# Altium footprint library PTH-Packages.PcbLib: 17 footprints (part 2 of 2)
Each footprint in its own frame and in the unit in brackets; x right, y up, seen from the top. Pads: shape width x height; smd on the part's side, far side on the other; paste and mask are expansions set on the pad; w line width, h text height; cw(c..) or ccw(c..) is an arc to the next point about the centre after c.
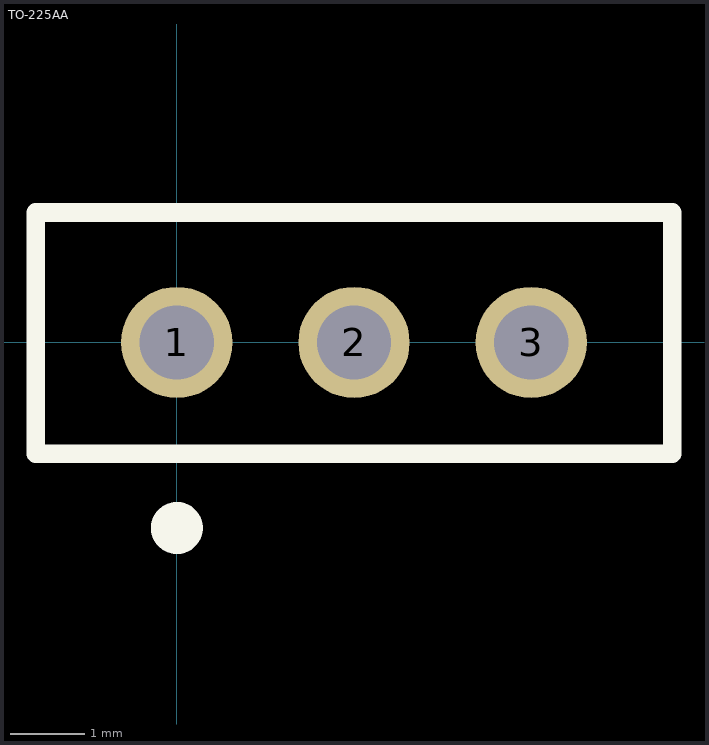
[diagram p1: the footprint, top view; thin cyan lines are the x and y axes]

## TO-225AA [mm]
pads (3):
  round 1.5 hole 1 paste-2539.97 mask+0: 1(0,0) 2(2.388,0) 3(4.775,0)
Top Overlay:
  circle w0.5: c0,-2.5 r0.1
  lines w0.254: -1.9,-1.5 6.675,-1.5 6.675,1.75 -1.9,1.75 -1.9,-1.5
3D body "TO-225AA.stp": height 18.97, standoff -6.96, extent -1.802,-1.39 6.578,1.65